# Altium footprint library B4B-EH-A.PcbLib: 1 footprints
Each footprint in its own frame and in the unit in brackets; x right, y up, seen from the top. Pads: shape width x height; smd on the part's side, far side on the other; paste and mask are expansions set on the pad; w line width, h text height; cw(c..) or ccw(c..) is an arc to the next point about the centre after c.
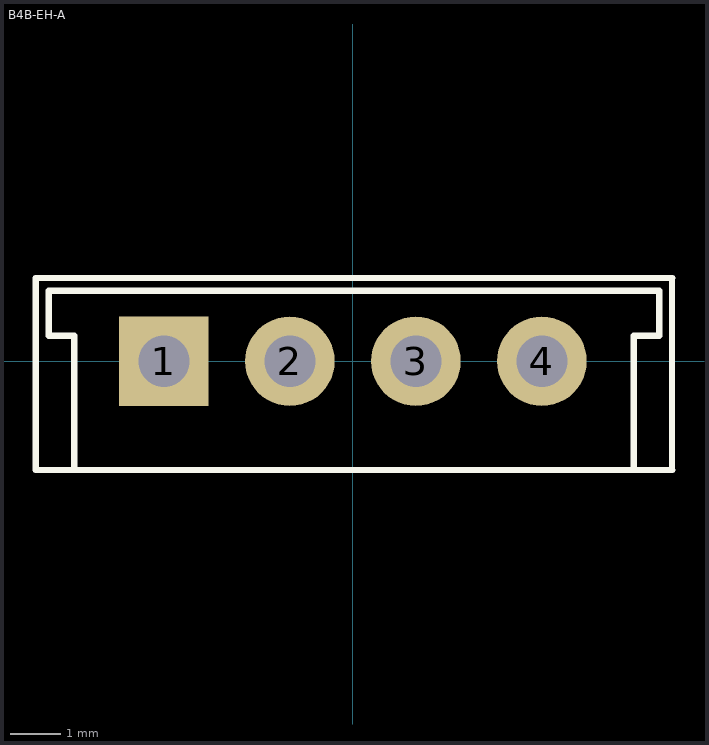
[diagram p0: the footprint, top view; thin cyan lines are the x and y axes]

## B4B-EH-A [mil] "EH Connector 2.5mm pitch"
height 236.22
pads (4):
  rect 70x70 hole 40: 1(-147.64,0)
  round 70 hole 40: 2(-49.21,0) 3(49.21,0) 4(147.64,0)
TopOverlay:
  lines w5: -217.64,-85 -217.64,20 -237.64,20 -237.64,55 239.36,55 ; 219.21,-85 219.21,20 239.21,20 239.21,55 ; 249.21,-85 249.21,65 ; 249.36,-85 -247.64,-85 -247.64,65 249.36,65
3D body: height 39.37, standoff 0, extent -237.62,-84.98 239.19,54.98
3D body: height 236.22, standoff 0, extent -247.62,-84.98 249.19,64.98